# Altium footprint library PCB-Other-Mark.PCBLIB: 3 footprints
Each footprint in its own frame and in the unit in brackets; x right, y up, seen from the top. Pads: shape width x height; smd on the part's side, far side on the other; paste and mask are expansions set on the pad; w line width, h text height; cw(c..) or ccw(c..) is an arc to the next point about the centre after c.
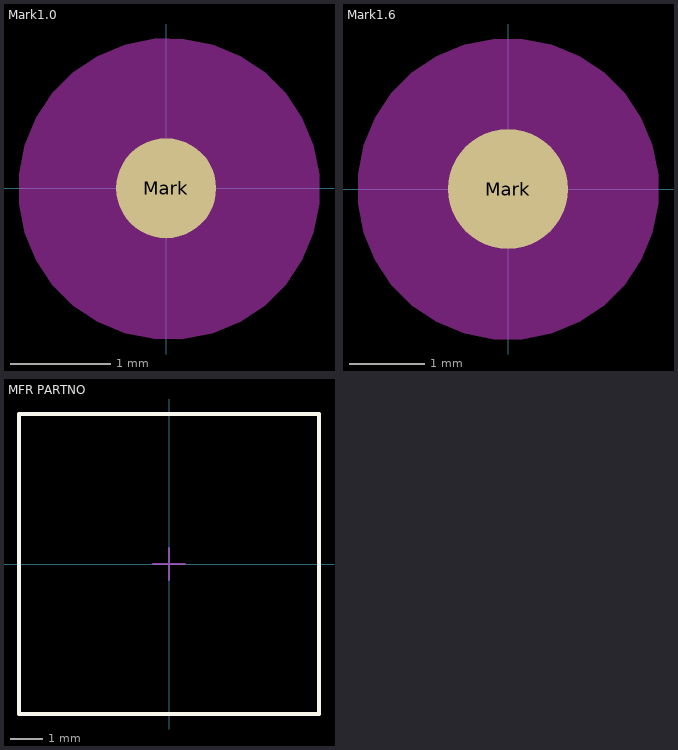
[diagram p0: the footprints below, top view; thin cyan lines are the x and y axes]

## Mark1.0 [mm] "Mark1.0"
pads (1):
  round 1 smd paste-1 mask+0.7: Mark(0,0)
Top keep-out:
  region: 0.029,-1.507 -0.119,-1.507 -0.409,-1.45 -0.682,-1.337 -0.927,-1.172 -1.136,-0.964 -1.3,-0.718 -1.414,-0.445 -1.471,-0.155 -1.471,-0.007 -1.471,0.14 -1.414,0.43 -1.3,0.703 -1.136,0.949 -0.927,1.158 -0.682,1.322 -0.409,1.435 -0.119,1.493 0.029,1.493 0.177,1.493 0.466,1.435 0.739,1.322 0.985,1.158 1.194,0.949 1.358,0.703 1.471,0.43 1.529,0.14 1.529,-0.007 1.529,-0.155 1.471,-0.445 1.358,-0.718 1.194,-0.964 0.985,-1.172 0.739,-1.337 0.466,-1.45 0.177,-1.507

## Mark1.6 [mm]
pads (1):
  round 1.6 smd paste-1 mask+0.7: Mark(0,0)
Top keep-out:
  region: 0,-2 -0.197,-2 -0.583,-1.923 -0.947,-1.772 -1.275,-1.554 -1.554,-1.275 -1.772,-0.947 -1.923,-0.583 -2,-0.197 -2,0 -2,0.197 -1.923,0.583 -1.772,0.947 -1.554,1.275 -1.275,1.554 -0.947,1.772 -0.583,1.923 -0.197,2 0,2 0.197,2 0.583,1.923 0.947,1.772 1.275,1.554 1.554,1.275 1.772,0.947 1.923,0.583 2,0.197 2,0 2,-0.197 1.923,-0.583 1.772,-0.947 1.554,-1.275 1.275,-1.554 0.947,-1.772 0.583,-1.923 0.197,-2

## MFR PARTNO [mm] "记得设置高度"
Top Overlay:
  lines w0.127: -4.7,-4.7 4.7,-4.7 4.7,4.7 -4.7,4.7 -4.7,-4.7
Top 元件外形:
  lines w0.127: -4.7,-4.7 -4.7,4.7 4.7,4.7 4.7,-4.7 -4.7,-4.7
Top 中心点:
  lines w0.051: -0.5,0 0.5,0 ; 0,-0.5 0,0.5